# Altium footprint library MOLEX_0532610471.PcbLib: 1 footprints
Each footprint in its own frame and in the unit in brackets; x right, y up, seen from the top. Pads: shape width x height; smd on the part's side, far side on the other; paste and mask are expansions set on the pad; w line width, h text height; cw(c..) or ccw(c..) is an arc to the next point about the centre after c.
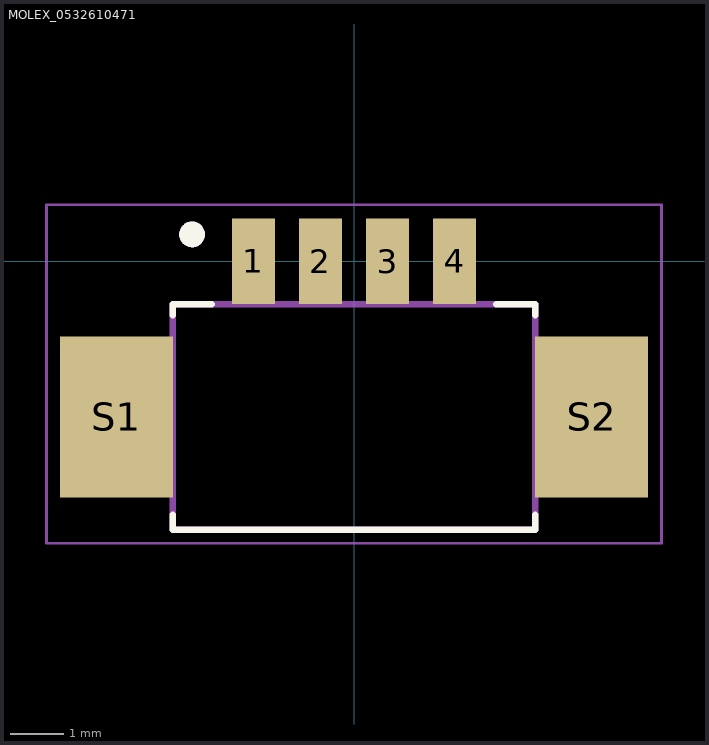
[diagram p0: the footprint, top view; thin cyan lines are the x and y axes]

## MOLEX_0532610471 [mm]
pads (6):
  rect 0.8x1.6 smd: 1(-1.875,0) 2(-0.625,0) 3(0.625,0) 4(1.875,0)
  rect 2.1x3 smd: S1(-4.425,-2.9) S2(4.425,-2.9)
Top Overlay:
  circle w0.24: c-3.015,0.5 r0.12
  lines w0.127: -3.375,-4.725 -3.375,-5 3.375,-5 3.375,-4.725 ; -3.375,-1 -3.375,-0.8 -2.65,-0.8 ; 2.65,-0.8 3.375,-0.8 3.375,-1
Mechanical 13:
  circle w0.24: c-3.015,0.5 r0.12
  lines w0.127: -3.375,-5 -3.375,-0.8 3.375,-0.8 3.375,-5 -3.375,-5
Mechanical 15:
  lines w0.05: -5.725,-5.25 5.725,-5.25 5.725,1.05 -5.725,1.05 -5.725,-5.25
3D body "step_temp.STEP": height 3.4, standoff -0.05, extent -5.075,-2.1 5.075,3.1